# EAGLE library part THS4021 (library TI)
350MHz low noise high-speed amplifier
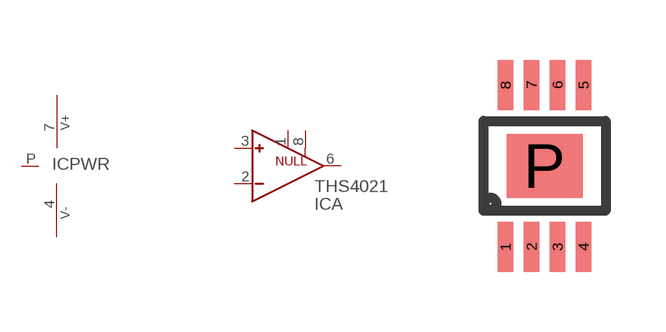
[diagram p26: symbol with the pads of MSOP8-P; footprint MSOP8-P]

Designator prefix IC; gates A=THS4021 PWR=ICPWR-P

## THS4021DGN  [MSOP8-P]
1  A:NULL  in
2  A:IN-  in
3  A:IN+  in
4  PWR:V-  pwr
6  A:OUT  out
7  PWR:V+  pwr
8  A:NULL  in
P  PWR:PAD

## Footprint MSOP8-P (pad centres in mm)
Texas Instruments MSOP8 package, 0.65mm pitch
smd 0.38 x 1.25: 1 -0.975,-2.025; 2 -0.325,-2.025; 3 0.325,-2.025; 4 0.975,-2.025; 5 0.975,2.025; 6 0.325,2.025; 7 -0.325,2.025; 8 -0.975,2.025
smd 1.9 x 1.6: P 0,0